# Altium schematic symbol library LED-SMD.SchLib: 4 symbols
Pins are listed as number, name and electrical type; pins without a type are passive.

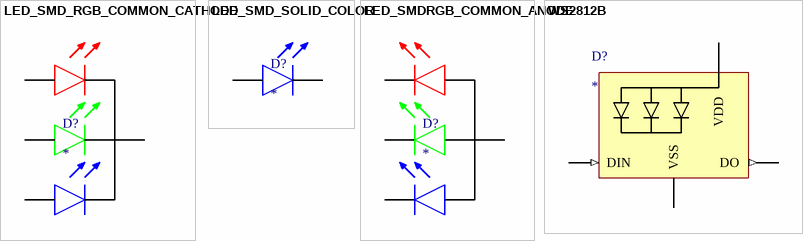
[diagram p0: symbols LED_SMD_RGB_COMMON_CATHODE to WS2812B]

## LED_SMD_RGB_COMMON_CATHODE
designator D?
pins: 1, 2, 3, 4

## LED_SMD_SOLID_COLOR
designator D?
footprint LED0402-AMBER
footprint LED0402-GREEN
footprint LED0402-BLUE
footprint LED0402-RED
footprint LED0402-YELLOW
footprint LED0603-AMBER
footprint LED0603-GREEN
footprint LED0603-BLUE
footprint LED0603-RED
footprint LED0603-YELLOW
footprint LED0805-GREEN
footprint LED0805-AMBER
footprint LED0805-BLUE
footprint LED0805-RED
footprint LED0805-YELLOW
pins: 1, 2

## LED_SMDRGB_COMMON_ANODE
designator D?
pins: 1, 2, 3, 4

## WS2812B
designator D?
footprint WS2812B-5050
pins: 1 VDD, 2 DO (out), 3 VSS, 4 DIN (in)